# EAGLE library part SIM800C (library SIM800C)
GSM/GPRS Module: SIM800C is a complete Quad-band GSM/GPRS solution in a SMT type. SIM800C supports Quad-band 850/900/1800/1900MHz, it can transmit Voice, SMS and data information with low power consumption. With tiny size of 17.6*15.7*2.3mm. .............................................. ....................................................................................................................................Eagle library created by muhammedmusthafacp@gmail.com
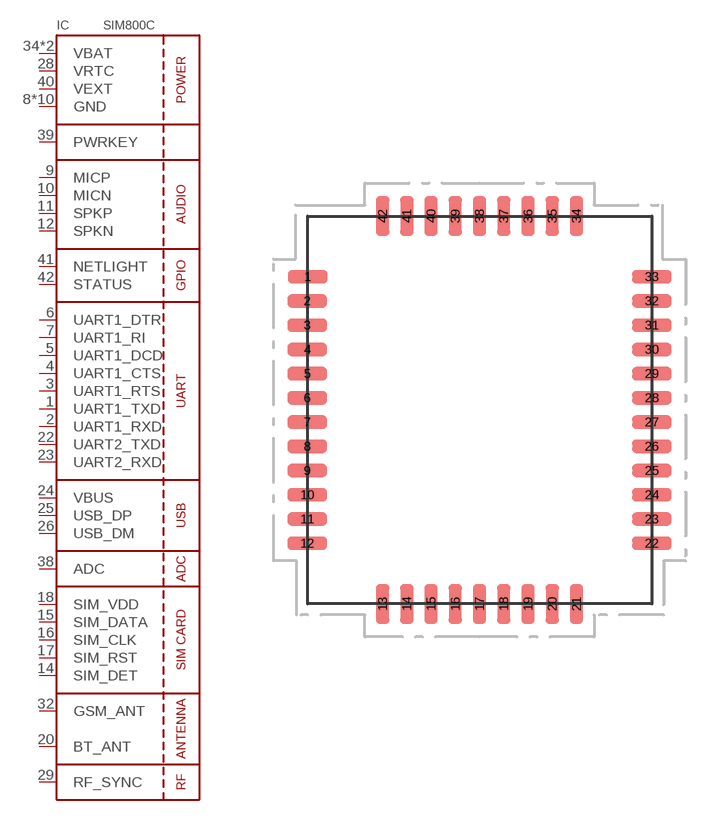
[diagram p0: symbol with the pads of SIM800C; footprint SIM800C]

Designator prefix IC

## SIM800C  [SIM800C]
1  UART1_TXD  out
2  UART1_RXD  in
3  UART1_RTS  in
4  UART1_CTS  out
5  UART1_DCD  out
6  UART1_DTR  in
7  UART1_RI  out
8  GND  pwr
9  MICP  in
10  MICN  in
11  SPKP  out
12  SPKN  out
13  GND  pwr
14  SIM_DET  in
15  SIM_DATA
16  SIM_CLK  out
17  SIM_RST  out
18  SIM_VDD  pwr
19  GND  pwr
20  BT_ANT
21  GND  pwr
22  UART2_TXD  out
23  UART2_RXD  in
24  VBUS  pwr
25  USB_DP
26  USB_DM
27  GND  pwr
28  VRTC  pwr
29  RF_SYNC  out
30  GND  pwr
31  GND  pwr
32  GSM_ANT
33  GND  pwr
34  VBAT  pwr
35  VBAT  pwr
36  GND  pwr
37  GND  pwr
38  ADC  in
39  PWRKEY  in
40  VEXT  pwr
41  NETLIGHT  out
42  STATUS  out

## Footprint SIM800C (pad centres in mm)
SIM800C
smd 1.8 x 0.6: 1 -7.8,6.05; 2 -7.82,4.95; 3 -7.82,3.85; 4 -7.82,2.75; 5 -7.82,1.65; 6 -7.82,0.55; 7 -7.82,-0.55; 8 -7.82,-1.65; 9 -7.82,-2.75; 10 -7.82,-3.85; 11 -7.82,-4.95; 12 -7.82,-6.05; 22 7.82,-6.05; 23 7.82,-4.95; 24 7.82,-3.85; 25 7.82,-2.75; 26 7.82,-1.65; 27 7.82,-0.55; 28 7.82,0.55; 29 7.82,1.65; 30 7.82,2.75; 31 7.82,3.85; 32 7.82,4.95; 33 7.82,6.05
smd 0.6 x 1.8: 13 -4.4,-8.8; 14 -3.3,-8.8; 15 -2.2,-8.8; 16 -1.1,-8.8; 17 0,-8.8; 18 1.1,-8.8; 19 2.2,-8.8; 20 3.3,-8.8; 21 4.4,-8.8; 34 4.4,8.8; 35 3.3,8.8; 36 2.2,8.8; 37 1.1,8.8; 38 0,8.8; 39 -1.1,8.8; 40 -2.2,8.8; 41 -3.3,8.8; 42 -4.4,8.8